# Altium footprint library SamacSys.PcbLib: 26 footprints (part 2 of 2)
Each footprint in its own frame and in the unit in brackets; x right, y up, seen from the top. Pads: shape width x height; smd on the part's side, far side on the other; paste and mask are expansions set on the pad; w line width, h text height; cw(c..) or ccw(c..) is an arc to the next point about the centre after c.
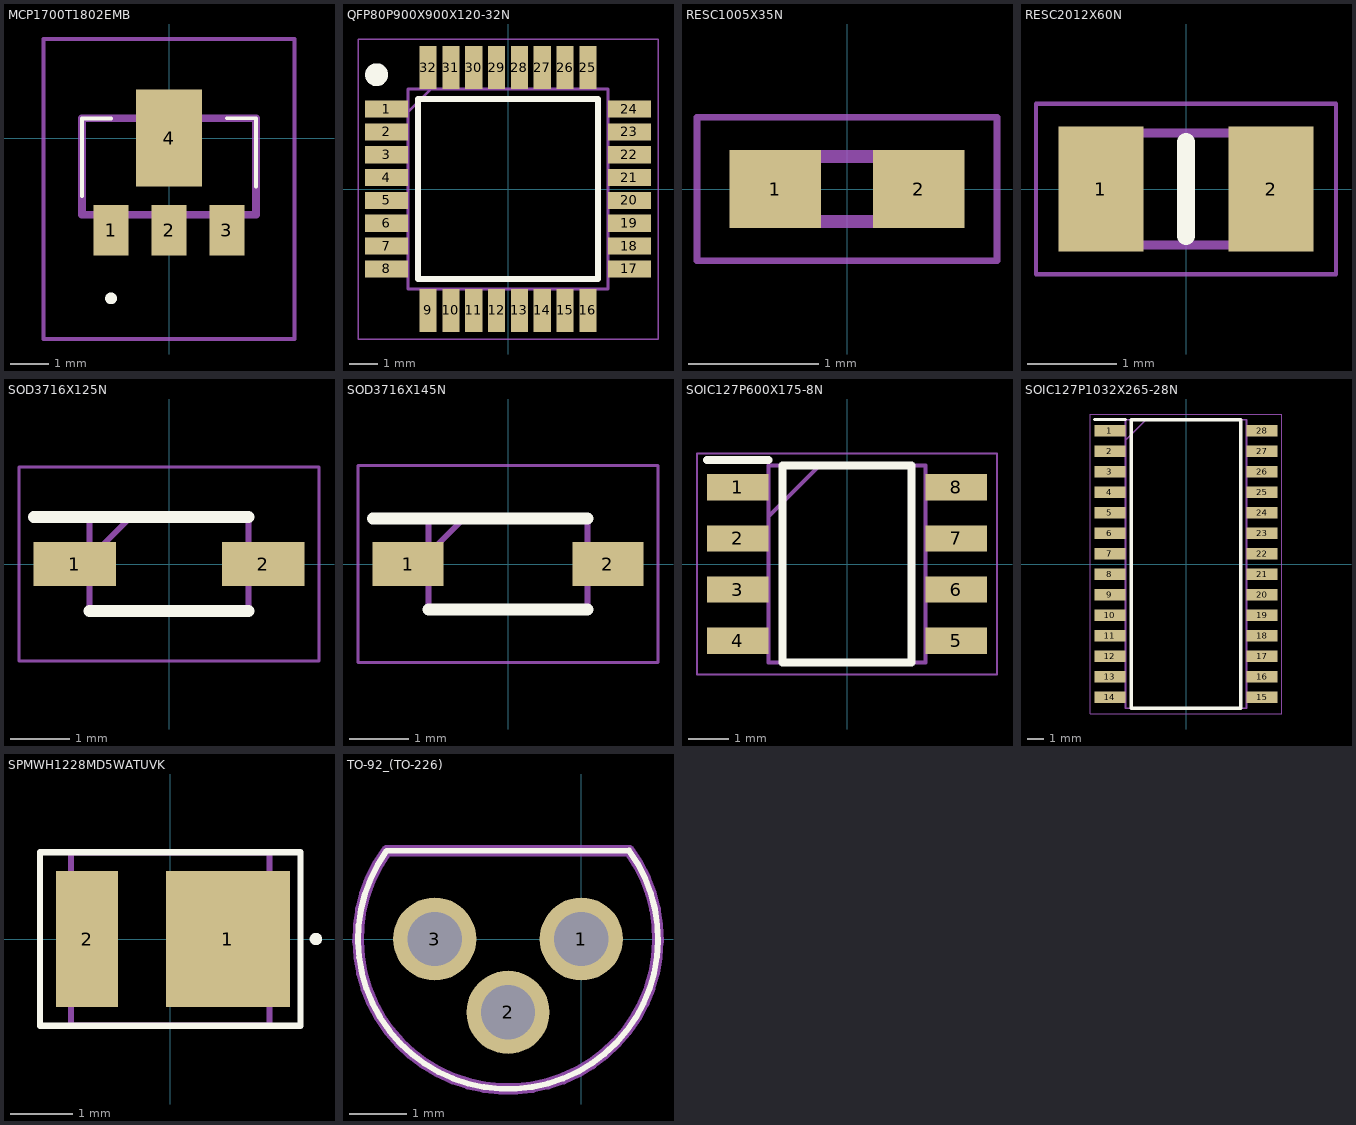
[diagram p1: the footprints below, top view; thin cyan lines are the x and y axes]

## MCP1700T1802EMB [mm]
pads (4):
  rect 0.9x1.3 smd: 1(-1.5,-2.388) 2(0,-2.388) 3(1.5,-2.388)
  rect 1.7x2.5 smd: 4(0,0)
Top Overlay:
  lines w0.1: -2.25,0.5 -2.25,0.513 -1.5,0.513 -1.5,0.5 -2.25,0.5 ; -2.25,0.5 -2.25,-1.5 -2.25,0.5 ; 2.25,0.513 2.25,-1.25 2.25,0.513 ; 2.25,0.513 1.5,0.513 2.25,0.513
  lines w0.2: -1.5,-4.2 ccw(c-1.5,-4.15) -1.5,-4.1 ; -1.5,-4.2 cw(c-1.5,-4.15) -1.5,-4.1 ; -1.5,-4.2 ccw(c-1.5,-4.15) -1.5,-4.1
Mechanical 13:
  lines w0.2: -2.25,-1.987 -2.25,0.513 2.25,0.513 2.25,-1.987 -2.25,-1.987
Mechanical 15:
  lines w0.1: -3.25,-5.2 -3.25,2.563 3.25,2.563 3.25,-5.2 -3.25,-5.2
3D body "MCP1700T-1802E_MB.stp": height 1.7, standoff 0, extent -2.25,-1.987 2.25,0.513

## QFP80P900X900X120-32N [mm]
pads (32):
  rect 1.5x0.6 smd: 1(-4.25,2.8) 2(-4.25,2) 3(-4.25,1.2) 4(-4.25,0.4) 5(-4.25,-0.4) 6(-4.25,-1.2) 7(-4.25,-2) 8(-4.25,-2.8) 17(4.25,-2.8) 18(4.25,-2) 19(4.25,-1.2) 20(4.25,-0.4) 21(4.25,0.4) 22(4.25,1.2) 23(4.25,2) 24(4.25,2.8)
  rect 0.6x1.5 smd: 9(-2.8,-4.25) 10(-2,-4.25) 11(-1.2,-4.25) 12(-0.4,-4.25) 13(0.4,-4.25) 14(1.2,-4.25) 15(2,-4.25) 16(2.8,-4.25) 25(2.8,4.25) 26(2,4.25) 27(1.2,4.25) 28(0.4,4.25) 29(-0.4,4.25) 30(-1.2,4.25) 31(-2,4.25) 32(-2.8,4.25)
Top Overlay:
  circle w0.4: c-4.6,4 r0.2
  lines w0.2: -3.15,-3.15 3.15,-3.15 3.15,3.15 -3.15,3.15 -3.15,-3.15
Mechanical 13:
  lines w0.1: -3.5,2.7 -2.7,3.5 ; -3.5,-3.5 3.5,-3.5 3.5,3.5 -3.5,3.5 -3.5,-3.5
Mechanical 15:
  lines w0.05: -5.25,-5.25 5.25,-5.25 5.25,5.25 -5.25,5.25 -5.25,-5.25
3D body "ATmega8-16AU.stp": height 1.2, standoff 0, extent -4.5,-4.5 4.5,4.5

## RESC1005X35N [mm]
pads (2):
  rect 0.7x0.6 smd: 1(-0.55,0) 2(0.55,0)
Mechanical 13:
  lines w0.1: -0.5,-0.25 -0.5,0.25 0.5,0.25 0.5,-0.25 -0.5,-0.25
Mechanical 15:
  lines w0.05: -1.15,-0.55 -1.15,0.55 1.15,0.55 1.15,-0.55 -1.15,-0.55
3D body "CPF0402B100KE.stp": height 0.35, standoff 0, extent -0.5,-0.25 0.5,0.25

## RESC2012X60N [mm]
pads (2):
  rect 0.95x1.4 smd: 1(-0.95,0) 2(0.95,0)
Top Overlay:
  lines w0.2: 0,-0.525 0,0.525
Mechanical 13:
  lines w0.1: -1,-0.625 -1,0.625 1,0.625 1,-0.625 -1,-0.625
Mechanical 15:
  lines w0.05: -1.675,-0.95 -1.675,0.95 1.675,0.95 1.675,-0.95 -1.675,-0.95
3D body "RC0805JR-0775RL.stp": height 0.6, standoff 0, extent -1,-0.625 1,0.625

## SOD3716X125N [mm]
pads (2):
  rect 1.4x0.75 smd: 1(-1.6,0) 2(1.6,0)
Top Overlay:
  lines w0.2: -2.3,0.8 1.35,0.8 ; -1.35,-0.8 1.35,-0.8
Mechanical 13:
  lines w0.1: -1.35,0.1 -0.65,0.8 ; -1.35,-0.8 1.35,-0.8 1.35,0.8 -1.35,0.8 -1.35,-0.8
Mechanical 15:
  lines w0.05: -2.55,-1.65 2.55,-1.65 2.55,1.65 -2.55,1.65 -2.55,-1.65
3D body "1N4148W.stp": height 1.32, standoff 0.08, extent -1.93,-0.851 1.93,0.851

## SOD3716X145N [mm]
pads (2):
  rect 1.2x0.75 smd: 1(-1.7,0) 2(1.7,0)
Top Overlay:
  lines w0.2: -2.3,0.775 1.35,0.775 ; -1.35,-0.775 1.35,-0.775
Mechanical 13:
  lines w0.1: -1.35,0.175 -0.75,0.775 ; -1.35,-0.775 -1.35,0.775 1.35,0.775 1.35,-0.775 -1.35,-0.775
Mechanical 15:
  lines w0.05: -2.55,-1.675 -2.55,1.675 2.55,1.675 2.55,-1.675 -2.55,-1.675
3D body "1N5819HW-7-F.stp": height 1.45, standoff 0, extent -1.85,-0.775 1.85,0.775

## SOIC127P600X175-8N [mm]
pads (8):
  rect 1.525x0.65 smd: 1(-2.712,1.905) 2(-2.712,0.635) 3(-2.712,-0.635) 4(-2.712,-1.905) 5(2.712,-1.905) 6(2.712,-0.635) 7(2.712,0.635) 8(2.712,1.905)
Top Overlay:
  lines w0.2: -3.475,2.58 -1.95,2.58 ; -1.6,-2.45 1.6,-2.45 1.6,2.45 -1.6,2.45 -1.6,-2.45
Mechanical 13:
  lines w0.1: -1.95,1.18 -0.68,2.45 ; -1.95,-2.45 1.95,-2.45 1.95,2.45 -1.95,2.45 -1.95,-2.45
Mechanical 15:
  lines w0.05: -3.725,-2.75 3.725,-2.75 3.725,2.75 -3.725,2.75 -3.725,-2.75
3D body "NE555DR.stp": height 1.75, standoff 0, extent -3,-2.45 3,2.45

## SOIC127P1032X265-28N [mm]
pads (28):
  rect 1.925x0.7 smd: 1(-4.712,8.255) 2(-4.712,6.985) 3(-4.712,5.715) 4(-4.712,4.445) 5(-4.712,3.175) 6(-4.712,1.905) 7(-4.712,0.635) 8(-4.712,-0.635) 9(-4.712,-1.905) 10(-4.712,-3.175) 11(-4.712,-4.445) 12(-4.712,-5.715) 13(-4.712,-6.985) 14(-4.712,-8.255) 15(4.712,-8.255) 16(4.712,-6.985) 17(4.712,-5.715) 18(4.712,-4.445) 19(4.712,-3.175) 20(4.712,-1.905) 21(4.712,-0.635) 22(4.712,0.635) 23(4.712,1.905) 24(4.712,3.175) 25(4.712,4.445) 26(4.712,5.715) 27(4.712,6.985) 28(4.712,8.255)
Top Overlay:
  lines w0.2: -5.675,8.955 -3.75,8.955 ; -3.4,-8.95 -3.4,8.95 3.4,8.95 3.4,-8.95 -3.4,-8.95
Mechanical 13:
  lines w0.1: -3.75,7.68 -2.48,8.95 ; -3.75,-8.95 -3.75,8.95 3.75,8.95 3.75,-8.95 -3.75,-8.95
Mechanical 15:
  lines w0.05: -5.925,-9.3 -5.925,9.3 5.925,9.3 5.925,-9.3 -5.925,-9.3
3D body "VN5772AK-E.stp": height 2.65, standoff 0, extent -5.162,-8.95 5.162,8.95

## SPMWH1228MD5WATUVK [mm]
pads (2):
  rect 2x2.2 smd mask+0: 1(0.93,0)
  rect 1x2.2 smd mask+0.07: 2(-1.34,0)
Top Overlay:
  lines w0.1: -2.1,-1.4 2.1,-1.4 2.1,1.4 -2.1,1.4 -2.1,-1.4 ; 2.3,0 cw(c2.35,0) 2.4,0 cw(c2.35,0) 2.3,0
Mechanical 13:
  lines w0.1: -1.6,-1.4 -1.6,1.4 1.6,1.4 1.6,-1.4 -1.6,-1.4
3D body "SPMWH1228MD5WATUVK.stp": height 0.75, standoff 0, extent -1.75,-1.4 1.75,1.4

## TO-92_(TO-226) [mm]
pads (3):
  round 1.44 hole 0.94: 1(0,0) 2(-1.27,-1.27) 3(-2.54,0)
Top Overlay:
  lines w0.1: -3.373,1.528 ccw(c-1.27,0) 0.831,1.532 ; -3.372,1.53 0.832,1.53
Mechanical 13:
  lines w0.2: -3.373,1.528 ccw(c-1.27,0) 0.831,1.532 ; -3.372,1.53 0.832,1.53
3D body "BC547BG.stp": height 8.33, standoff -12.62, extent -3.869,-2.51 1.329,1.68